# Altium schematic symbol library AND_Gate_TI_SN74AUP1T08DCKR.SchLib: 1 symbol
Pins are listed as number, name and electrical type; pins without a type are passive.

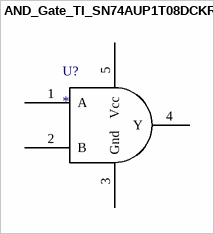
[diagram p0: symbol AND_Gate_TI_SN74AUP1T08DCKR]

## AND_Gate_TI_SN74AUP1T08DCKR
designator U?
pins: 1 A, 2 B, 3 Gnd, 4 Y, 5 Vcc